# EAGLE library part FPC40 (library SW_Connectors)
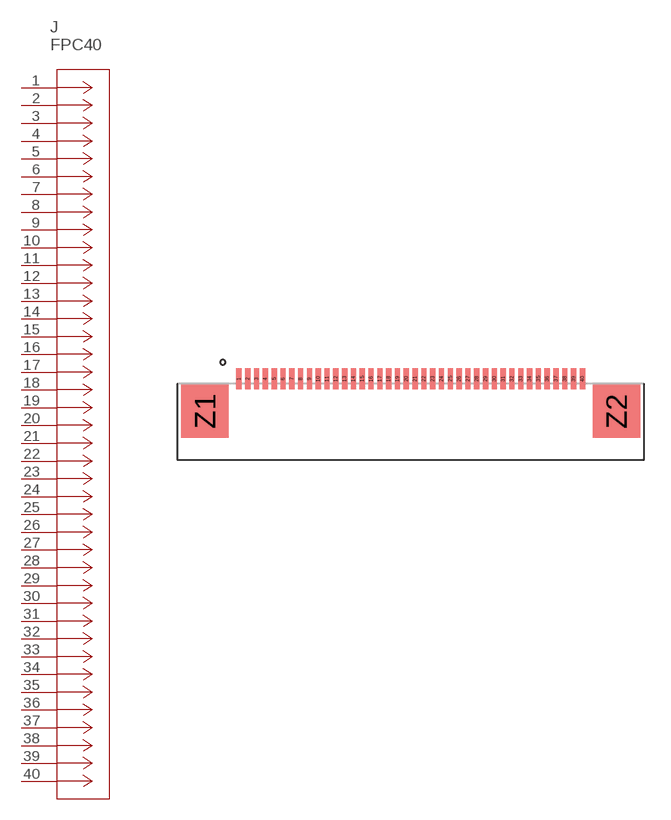
[diagram p12: symbol with the pads of 68714014022; footprint 68714014022]

Designator prefix J

## FPC40WE (CATEGORY: Connector; PACKAGE: FPC40)  [68714014022]
1  1  pas
2  2  pas
3  3  pas
4  4  pas
5  5  pas
6  6  pas
7  7  pas
8  8  pas
9  9  pas
10  10  pas
11  11  pas
12  12  pas
13  13  pas
14  14  pas
15  15  pas
16  16  pas
17  17  pas
18  18  pas
19  19  pas
20  20  pas
21  21  pas
22  22  pas
23  23  pas
24  24  pas
25  25  pas
26  26  pas
27  27  pas
28  28  pas
29  29  pas
30  30  pas
31  31  pas
32  32  pas
33  33  pas
34  34  pas
35  35  pas
36  36  pas
37  37  pas
38  38  pas
39  39  pas
40  40  pas

## Footprint 68714014022 (pad centres in mm)
WR-FPC 0.5mm SMT ZIF Horizontal Top Contact, 40 Pins
smd 0.3 x 1.2: 1 -9.75,1.86; 2 -9.25,1.86; 3 -8.75,1.86; 4 -8.25,1.86; 5 -7.75,1.86; 6 -7.25,1.86; 7 -6.75,1.86; 8 -6.25,1.86; 9 -5.75,1.86; 10 -5.25,1.86; 11 -4.75,1.86; 12 -4.25,1.86; 13 -3.75,1.86; 14 -3.25,1.86; 15 -2.75,1.86; 16 -2.25,1.86; 17 -1.75,1.86; 18 -1.25,1.86; 19 -0.75,1.86; 20 -0.25,1.86; 21 0.25,1.86; 22 0.75,1.86; 23 1.25,1.86; 24 1.75,1.86; 25 2.25,1.86; 26 2.75,1.86; 27 3.25,1.86; 28 3.75,1.86; 29 4.25,1.86; 30 4.75,1.86; 31 5.25,1.86; 32 5.75,1.86; 33 6.25,1.86; 34 6.75,1.86; 35 7.25,1.86; 36 7.75,1.86; 37 8.25,1.86; 38 8.75,1.86; 39 9.25,1.86; 40 9.75,1.86
smd 2.7 x 3: Z1 -11.68,0; Z2 11.68,0